# Altium footprint library Footprints_QSAT.PcbLib: 18 footprints (part 1 of 2)
Each footprint in its own frame and in the unit in brackets; x right, y up, seen from the top. Pads: shape width x height; smd on the part's side, far side on the other; paste and mask are expansions set on the pad; w line width, h text height; cw(c..) or ccw(c..) is an arc to the next point about the centre after c.
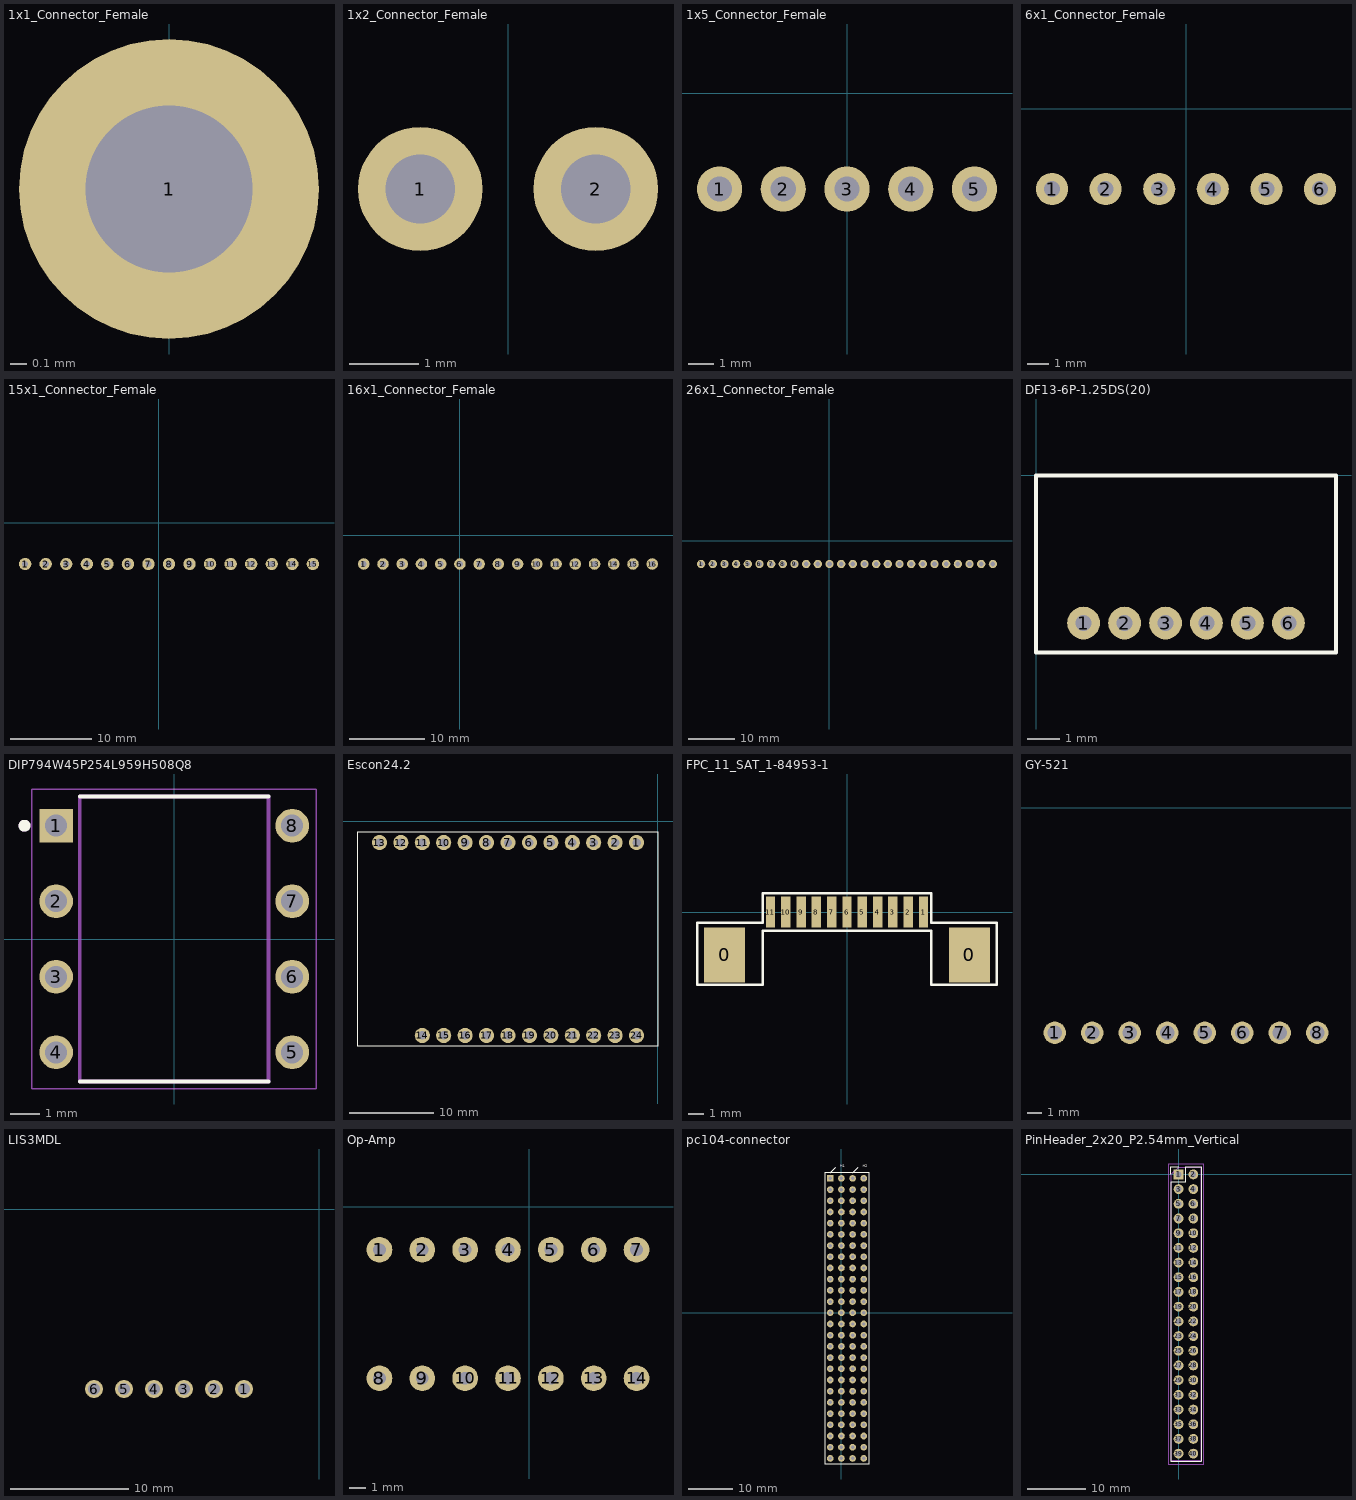
[diagram p0: the footprints below, top view; thin cyan lines are the x and y axes]

## 1x1_Connector_Female [mm]
pads (1):
  round 1.8 hole 1: 1(0,-3.81)

## 1x2_Connector_Female [mm]
pads (2):
  round 1.8 hole 1: 1(-1.27,-2.54) 2(1.27,-2.54)

## 1x5_Connector_Female [mm]
pads (5):
  round 1.8 hole 1: 1(-5.08,-3.81) 2(-2.54,-3.81) 3(0,-3.81) 4(2.54,-3.81) 5(5.08,-3.81)

## 6x1_Connector_Female [mil]
pads (6):
  round 60 hole 30: 1(-250,-150) 2(-150,-150) 3(-50,-150) 4(50,-150) 5(150,-150) 6(250,-150)

## 15x1_Connector_Female [mil]
pads (15):
  round 60 hole 30: 1(-650,-200) 2(-550,-200) 3(-450,-200) 4(-350,-200) 5(-250,-200) 6(-150,-200) 7(-50,-200) 8(50,-200) 9(150,-200) 10(250,-200) 11(350,-200) 12(450,-200) 13(550,-200) 14(650,-200) 15(750,-200)

## 16x1_Connector_Female [mil]
pads (16):
  round 60 hole 30: 1(-500,-150) 2(-400,-150) 3(-300,-150) 4(-200,-150) 5(-100,-150) 6(0,-150) 7(100,-150) 8(200,-150) 9(300,-150) 10(400,-150) 11(500,-150) 12(600,-150) 13(700,-150) 14(800,-150) 15(900,-150) 16(1000,-150)

## 26x1_Connector_Female [mm]
pads (26):
  round 1.8 hole 1: 1(-27.94,-5.08) 2(-25.4,-5.08) 3(-22.86,-5.08) 4(-20.32,-5.08) 5(-17.78,-5.08) 6(-15.24,-5.08) 7(-12.7,-5.08) 8(-10.16,-5.08) 9(-7.62,-5.08) 10(-5.08,-5.08) 11(-2.54,-5.08) 12(0,-5.08) 13(2.54,-5.08) 14(5.08,-5.08) 15(7.62,-5.08) 16(10.16,-5.08) 17(12.7,-5.08) 18(15.24,-5.08) 19(17.78,-5.08) 20(20.32,-5.08) 21(22.86,-5.08) 22(25.4,-5.08) 23(27.94,-5.08) 24(30.48,-5.08) 25(33.02,-5.08) 26(35.56,-5.08)

## DF13-6P-1.25DS(20) [mm]
pads (6):
  round 1 hole 0.5: 1(1.45,-4.5) 2(2.7,-4.5) 3(3.95,-4.5) 4(5.2,-4.5) 5(6.45,-4.5) 6(7.7,-4.5)
F.SilkS:
  lines w0.12: 0,-5.4 0,0 9.15,0 9.15,-5.4 0,-5.4
F.Fab:
  text "'.Designator'" at -1.439,-2.898 h1

## DIP794W45P254L959H508Q8 [mm]
pads (8):
  rect 1.13x1.13 hole 0.74: 1(-3.97,3.81)
  round 1.13 hole 0.74: 2(-3.97,1.27) 3(-3.97,-1.27) 4(-3.97,-3.81) 5(3.97,-3.81) 6(3.97,-1.27) 7(3.97,1.27) 8(3.97,3.81)
F.SilkS:
  circle w0.2: c-5.035,3.81 r0.1
  lines w0.127: -3.175,-4.795 3.175,-4.795 ; -3.175,4.795 3.175,4.795
F.Fab:
  circle w0.2: c-5.035,3.81 r0.1
  lines w0.127: -3.175,-4.795 3.175,-4.795 3.175,4.795 -3.175,4.795 -3.175,-4.795
F.CrtYd:
  lines w0.05: -4.785,-5.045 4.785,-5.045 4.785,5.045 -4.785,5.045 -4.785,-5.045

## Escon24.2 [mm]
pads (24):
  round 1.8 hole 1: 1(-2.54,-2.54) 2(-5.08,-2.54) 3(-7.62,-2.54) 4(-10.16,-2.54) 5(-12.7,-2.54) 6(-15.24,-2.54) 7(-17.78,-2.54) 8(-20.32,-2.54) 9(-22.86,-2.54) 10(-25.4,-2.54) 11(-27.94,-2.54) 12(-30.48,-2.54) 13(-33.02,-2.54) 14(-27.94,-25.4) 15(-25.4,-25.4) 16(-22.86,-25.4) 17(-20.32,-25.4) 18(-17.78,-25.4) 19(-15.24,-25.4) 20(-12.7,-25.4) 21(-10.16,-25.4) 22(-7.62,-25.4) 23(-5.08,-25.4) 24(-2.54,-25.4)
F.SilkS:
  lines w0.12: -35.56,-26.67 0,-26.67 0,-1.27 -35.56,-1.27 -35.56,-26.67

## FPC_11_SAT_1-84953-1 [mm]
pads (13):
  rect 2.68x3.6 smd: 0(-8,-2.8) 0(8,-2.8)
  rect 0.61x2 smd: 1(5,0) 2(4,0) 3(3,0) 4(2,0) 5(1,0) 6(0,0) 7(-1,0) 8(-2,0) 9(-3,0) 10(-4,0) 11(-5,0)
F.SilkS:
  lines w0.15: -9.79,-4.75 -5.5,-4.75 -5.5,-1.225 5.5,-1.225 5.5,-4.75 9.79,-4.75 9.79,-0.7 5.5,-0.7 5.5,1.225 -5.5,1.225 -5.5,-0.7 -9.79,-0.7 -9.79,-4.75

## GY-521 [mil]
pads (8):
  round 60 hole 39.37: 1(-800,-600) 2(-700,-600) 3(-600,-600) 4(-500,-600) 5(-400,-600) 6(-300,-600) 7(-200,-600) 8(-100,-600)
B.SilkS:
  lines w4.72: -850,-650 -50,-650 -50,-50 -850,-50 -850,-650

## LIS3MDL [mil]
pads (6):
  round 60 hole 39.37: 1(-250,-600) 2(-350,-600) 3(-450,-600) 4(-550,-600) 5(-650,-600) 6(-750,-600)
B.SilkS:
  lines w4.72: -1000,-700 -1000,0 0,0 0,-700 -1000,-700

## Op-Amp [mil]
pads (14):
  round 60 hole 30: 1(-350,-100) 2(-250,-100) 3(-150,-100) 4(-50,-100) 5(50,-100) 6(150,-100) 7(250,-100) 8(-350,-400) 9(-250,-400) 10(-150,-400) 11(-50,-400) 12(50,-400) 13(150,-400) 14(250,-400)
B.SilkS:
  lines w4.72: -400,-450 -400,-50 300,-50 300,-450 -400,-450

## pc104-connector [mil]
pads (104):
  rect 60x60 hole 30: 1(-100,1200)
  round 60 hole 30: 2(0,1200) 3(-100,1100) 4(0,1100) 5(-100,1000) 6(0,1000) 7(-100,900) 8(0,900) 9(-100,800) 10(0,800) 11(-100,700) 12(0,700) 13(-100,600) 14(0,600) 15(-100,500) 16(0,500) 17(-100,400) 18(0,400) 19(-100,300) 20(0,300) 21(-100,200) 22(0,200) 23(-100,100) 24(0,100) 25(-100,0) 26(0,0) 27(-100,-100) 28(0,-100) 29(-100,-200) 30(0,-200) 31(-100,-300) 32(0,-300) 33(-100,-400) 34(0,-400) 35(-100,-500) 36(0,-500) 37(-100,-600) 38(0,-600) 39(-100,-700) 40(0,-700) 41(-100,-800) 42(0,-800) 43(-100,-900) 44(0,-900) 45(-100,-1000) 46(0,-1000) 47(-100,-1100) 48(0,-1100) 49(-100,-1200) 50(0,-1200) 51(-100,-1300) 52(0,-1300) 53(100,1200) 54(200,1200) 55(100,1100) 56(200,1100) 57(100,1000) 58(200,1000) 59(100,900) 60(200,900) 61(100,800) 62(200,800) 63(100,700) 64(200,700) 65(100,600) 66(200,600) 67(100,500) 68(200,500) 69(100,400) 70(200,400) 71(100,300) 72(200,300) 73(100,200) 74(200,200) 75(100,100) 76(200,100) 77(100,0) 78(200,0) 79(100,-100) 80(200,-100) 81(100,-200) 82(200,-200) 83(100,-300) 84(200,-300) 85(100,-400) 86(200,-400) 87(100,-500) 88(200,-500) 89(100,-600) 90(200,-600) 91(100,-700) 92(200,-700) 93(100,-800) 94(200,-800) 95(100,-900) 96(200,-900) 97(100,-1000) 98(200,-1000) 99(100,-1100) 100(200,-1100) 101(100,-1200) 102(200,-1200) 103(100,-1300) 104(200,-1300)
F.SilkS:
  lines w4.72: -100,1250 -50,1300 ; 100,1250 150,1300 ; -150,-1350 250,-1350 250,1250 -150,1250 -150,-1350
  text "H2" at 189.06,1288.99 h39.37
  text "H1" at -9.52,1289.1 h39.37
F.Fab:
  text "'.Designator'" at -56.64,-1615.69 h39.37

## PinHeader_2x20_P2.54mm_Vertical [mm]
pads (40):
  rect 1.7x1.7 hole 1: 1(0,0)
  rrect100% 1.7x1.7 hole 1: 2(2.54,0) 3(0,-2.54) 4(2.54,-2.54) 5(0,-5.08) 6(2.54,-5.08) 7(0,-7.62) 8(2.54,-7.62) 9(0,-10.16) 10(2.54,-10.16) 11(0,-12.7) 12(2.54,-12.7) 13(0,-15.24) 14(2.54,-15.24) 15(0,-17.78) 16(2.54,-17.78) 17(0,-20.32) 18(2.54,-20.32) 19(0,-22.86) 20(2.54,-22.86) 21(0,-25.4) 22(2.54,-25.4) 23(0,-27.94) 24(2.54,-27.94) 25(0,-30.48) 26(2.54,-30.48) 27(0,-33.02) 28(2.54,-33.02) 29(0,-35.56) 30(2.54,-35.56) 31(0,-38.1) 32(2.54,-38.1) 33(0,-40.64) 34(2.54,-40.64) 35(0,-43.18) 36(2.54,-43.18) 37(0,-45.72) 38(2.54,-45.72) 39(0,-48.26) 40(2.54,-48.26)
F.SilkS:
  lines w0.12: -1.33,0 -1.33,1.33 0,1.33 ; -1.33,-49.59 -1.33,-1.27 1.27,-1.27 1.27,1.33 3.87,1.33 3.87,-49.59 -1.33,-49.59
F.Fab:
  lines w0.1: -1.27,-49.53 -1.27,0 0,1.27 3.81,1.27 3.81,-49.53 -1.27,-49.53
  text "'.Designator'" at 1.668,-25.569 h1
F.CrtYd:
  lines w0.05: -1.8,-50.05 4.35,-50.05 4.35,1.8 -1.8,1.8 -1.8,-50.05